# Altium schematic symbol library Battery Chargers.SchLib: 3 symbols
Pins are listed as number, name and electrical type; pins without a type are passive.

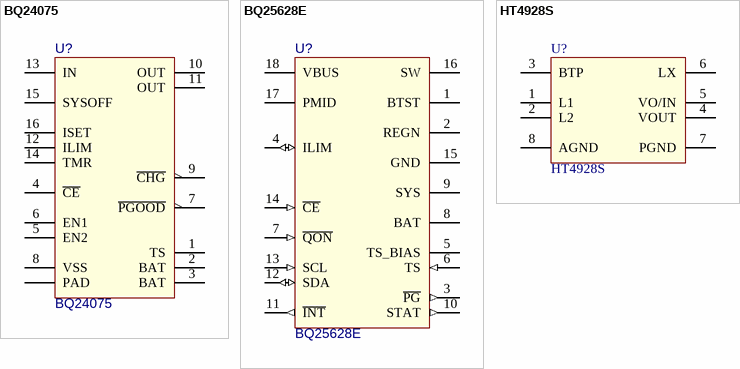
[diagram p0: symbols BQ24075 to HT4928S]

## BQ24075
designator U?
1.5A USB-FRIENDLY Li-Ion BATTERY CHARGER AND POWER-PATH MANAGEMENT IC; value: BQ24075
footprint QFN-16-3X3 (QFN, 16-Leads, Body 3,00x3,00mm, Pitch 0,50mm, Thermal Pad 1,68x1,68mm, IPC Low Density)
pins: 1 TS, 2 BAT (power), 3 BAT, 4 ~{CE}, 5 EN2, 6 EN1, 7 ~{PGOOD} (oc), 8 VSS (power), 9 ~{CHG} (oc), 10 OUT (power), 11 OUT (power), 12 ILIM, 13 IN (power), 14 TMR, 15 SYSOFF, 16 ISET, 17 PAD (power)

## BQ25628E
designator U?
I2C Controlled 1-Cell, 2A, Maximum 18V Input, Buck Battery Charger with / NVDC Power Path Management; Value: BQ25628E
footprint WQFN-HR-18(RYK)
pins: 1 BTST (power), 2 REGN (power), 3 ~{PG} (out), 4 ILIM (io), 5 TS_BIAS, 6 TS (in), 7 ~{QON} (in) "BATFET Enable or System Power Reset Control Input", 8 BAT (power), 9 SYS (power), 10 STAT (out), 11 ~{INT} (out), 12 SDA (io), 13 SCL (in), 14 ~{CE} (in), 15 GND (power), 16 SW (power), 17 PMID (power), 18 VBUS (power)

## HT4928S
designator U?
Mobile power / supply Management chip, built-in charge / management module, LED indicator Block, boost / discharge management module; Value: HT4928S
footprint SO-8_N (8-Pin Small Outline Integrated Circuit 1.27 mm Pitch, IPC Medium Density)
pins: 1 L1, 2 L2, 3 BTP, 4 VOUT, 5 VO/IN, 6 LX, 7 PGND (power), 8 AGND (power)